# Altium schematic symbol library ULaval Title Block.SCHLIB: 3 symbols
Pins are listed as number, name and electrical type; pins without a type are passive.

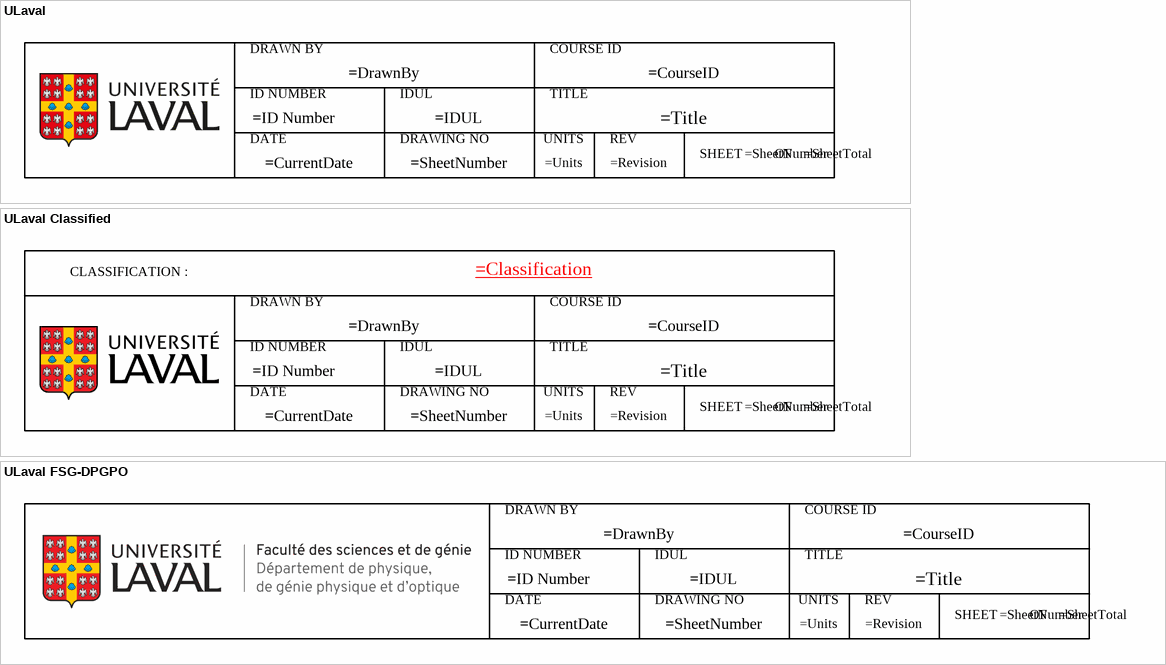
[diagram p0: symbols ULaval to ULaval FSG-DPGPO]

## ULaval
designator *  (value not drawn)
text: DRAWN BY; COURSE ID; ID NUMBER; IDUL; TITLE; DATE; DRAWING NO; UNITS; REV; SHEET; OF

## ULaval Classified
designator *  (value not drawn)  (graphical)
text: CLASSIFICATION :; DRAWN BY; COURSE ID; ID NUMBER; IDUL; TITLE; DATE; DRAWING NO; UNITS; REV; SHEET; OF

## ULaval FSG-DPGPO
designator *  (value not drawn)
text: DRAWN BY; COURSE ID; ID NUMBER; IDUL; TITLE; DATE; DRAWING NO; UNITS; REV; SHEET; OF